# EAGLE library part MOMO-SENSOR-HEADER (library components)
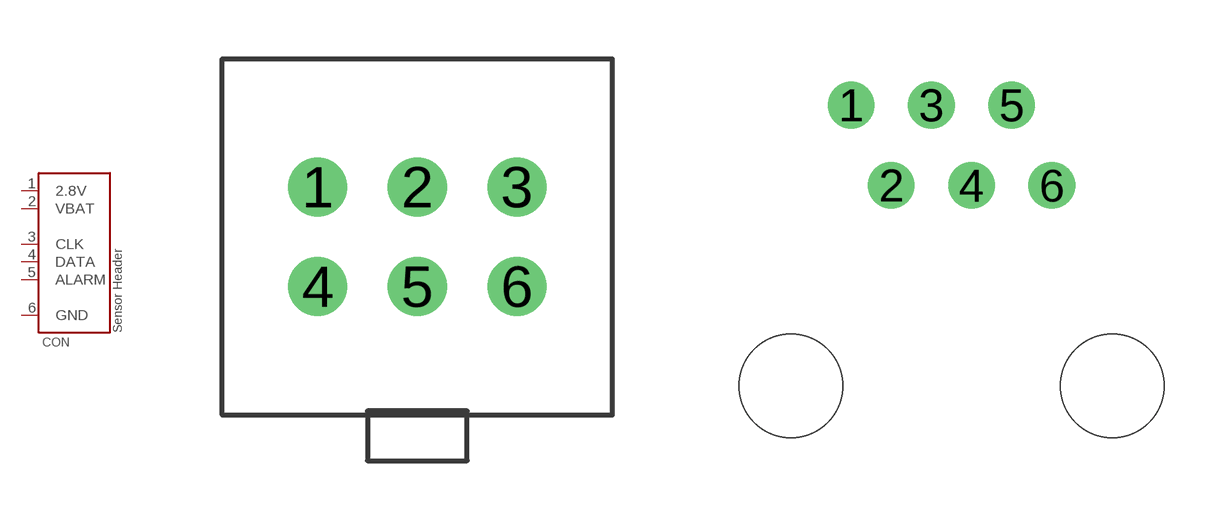
[diagram p12: symbol with the pads of 2X3-MOLEX-90130; footprints 2X3-MOLEX-90130, RJ12]

Designator prefix CON

## MOMO-SENSOR-HEADERMOLEX-6PIN  [2X3-MOLEX-90130]
1  2.8V
2  VBAT
3  CLK
4  DATA
5  ALARM
6  GND

## MOMO-SENSOR-HEADERRJ12 (DIGIKEY-PN: AE10383-ND; MANU-PN: A-2004-1-4-LP-N-R)  [RJ12]
1  2.8V
2  VBAT
3  ALARM
4  CLK
5  DATA
6  GND

## Footprint 2X3-MOLEX-90130 (pad centres in mm)
drill 1: 1 -2.54,2.54; 2 0,2.54; 3 2.54,2.54; 4 -2.54,0; 5 0,0; 6 2.54,0

## Footprint RJ12 (pad centres in mm)
drill 0.97: 1 -3.81,5.08; 2 -2.54,2.54; 3 -1.27,5.08; 4 0,2.54; 5 1.27,5.08; 6 2.54,2.54
hole 3.27 at -5.72,-3.81
hole 3.27 at 4.46,-3.81